# Altium footprint library Interface.PcbLib: 169 footprints (part 7 of 11)
Each footprint in its own frame and in the unit in brackets; x right, y up, seen from the top. Pads: shape width x height; smd on the part's side, far side on the other; paste and mask are expansions set on the pad; w line width, h text height; cw(c..) or ccw(c..) is an arc to the next point about the centre after c.
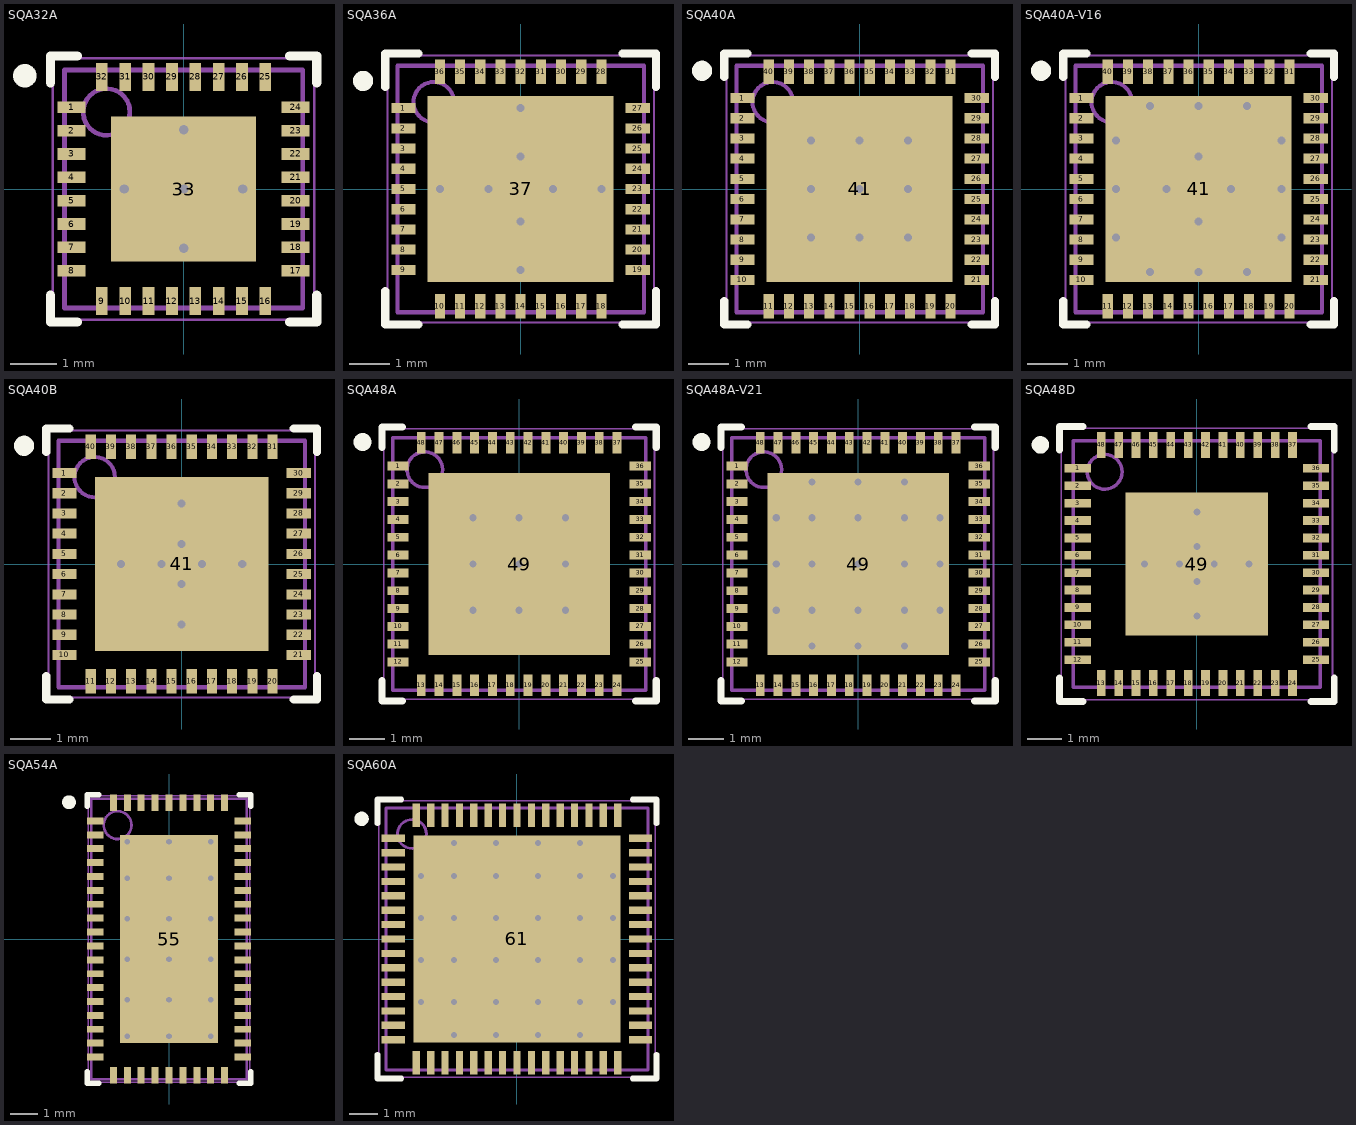
[diagram p6: the footprints below, top view; thin cyan lines are the x and y axes]

## SQA32A [mm] "QFN, 32-Leads, Body 5x5mm, Pitch 0.5mm, NSC Recommended"
height 0.8
pads (33):
  rect 0.6x0.25 smd paste-0.125 mask+0.051: 1(-2.4,1.75) 2(-2.4,1.25) 3(-2.4,0.75) 4(-2.4,0.25) 5(-2.4,-0.25) 6(-2.4,-0.75) 7(-2.4,-1.25) 8(-2.4,-1.75) 17(2.4,-1.75) 18(2.4,-1.25) 19(2.4,-0.75) 20(2.4,-0.25) 21(2.4,0.25) 22(2.4,0.75) 23(2.4,1.25) 24(2.4,1.75)
  rect 0.25x0.6 smd paste-0.125 mask+0.051: 9(-1.75,-2.4) 10(-1.25,-2.4) 11(-0.75,-2.4) 12(-0.25,-2.4) 13(0.25,-2.4) 14(0.75,-2.4) 15(1.25,-2.4) 16(1.75,-2.4) 25(1.75,2.4) 26(1.25,2.4) 27(0.75,2.4) 28(0.25,2.4) 29(-0.25,2.4) 30(-0.75,2.4) 31(-1.25,2.4) 32(-1.75,2.4)
  rect 3.1x3.1 smd paste-1.55 mask+0.051: 33(0,0)
via 0,1.27 diameter 0.5 hole 0.2
via -1.27,0 diameter 0.5 hole 0.2
via 0,0 diameter 0.5 hole 0.2
via 1.27,0 diameter 0.5 hole 0.2
via 0,-1.27 diameter 0.5 hole 0.2
Top Overlay:
  circle w0.25: c-3.4,2.425 r0.125
  lines w0.2: -2.85,-2.275 -2.85,-2.85 -2.275,-2.85 ; -2.85,2.275 -2.85,2.85 -2.275,2.85 ; 2.275,-2.85 2.85,-2.85 2.85,-2.275 ; 2.275,2.85 2.85,2.85 2.85,2.275
Top Paste:
  region: 1.625,2.9 1.625,2.2 1.875,2.2 1.875,2.9
  region: 1.125,2.9 1.125,2.2 1.375,2.2 1.375,2.9
  region: 0.625,2.9 0.625,2.2 0.875,2.2 0.875,2.9
  region: 0.125,2.9 0.125,2.2 0.375,2.2 0.375,2.9
  region: -0.375,2.9 -0.375,2.2 -0.125,2.2 -0.125,2.9
  region: -0.875,2.9 -0.875,2.2 -0.625,2.2 -0.625,2.9
  region: -1.375,2.9 -1.375,2.2 -1.125,2.2 -1.125,2.9
  region: -1.875,2.9 -1.875,2.2 -1.625,2.2 -1.625,2.9
  region: 2.9,-1.625 2.2,-1.625 2.2,-1.875 2.9,-1.875
  region: 2.9,-1.125 2.2,-1.125 2.2,-1.375 2.9,-1.375
  region: 2.9,-0.625 2.2,-0.625 2.2,-0.875 2.9,-0.875
  region: 2.9,-0.125 2.2,-0.125 2.2,-0.375 2.9,-0.375
  region: 2.9,0.375 2.2,0.375 2.2,0.125 2.9,0.125
  region: 2.9,0.875 2.2,0.875 2.2,0.625 2.9,0.625
  region: 2.9,1.375 2.2,1.375 2.2,1.125 2.9,1.125
  region: 2.9,1.875 2.2,1.875 2.2,1.625 2.9,1.625
  region: -1.625,-2.9 -1.625,-2.2 -1.875,-2.2 -1.875,-2.9
  region: -1.125,-2.9 -1.125,-2.2 -1.375,-2.2 -1.375,-2.9
  region: -0.625,-2.9 -0.625,-2.2 -0.875,-2.2 -0.875,-2.9
  region: -0.125,-2.9 -0.125,-2.2 -0.375,-2.2 -0.375,-2.9
  region: 0.375,-2.9 0.375,-2.2 0.125,-2.2 0.125,-2.9
  region: 0.875,-2.9 0.875,-2.2 0.625,-2.2 0.625,-2.9
  region: 1.375,-2.9 1.375,-2.2 1.125,-2.2 1.125,-2.9
  region: 1.875,-2.9 1.875,-2.2 1.625,-2.2 1.625,-2.9
  rectangle: -2.9,-1.875 -2.2,-1.625
  rectangle: -2.9,-1.375 -2.2,-1.125
  rectangle: -2.9,-0.875 -2.2,-0.625
  rectangle: -2.9,-0.375 -2.2,-0.125
  rectangle: -2.9,0.125 -2.2,0.375
  rectangle: -2.9,0.625 -2.2,0.875
  rectangle: -2.9,1.125 -2.2,1.375
  rectangle: -2.9,1.625 -2.2,1.875
  rectangle: 0.1,0.1 1.4,1.4
  region: -0.1,1.4 -1.4,1.4 -1.4,0.1 -0.1,0.1
  region: -0.1,-0.1 -1.4,-0.1 -1.4,-1.4 -0.1,-1.4
  rectangle: 0.1,-1.4 1.4,-0.1
Mechanical 13:
  circle w0.1: c-1.65,1.65 r0.5
  lines w0.1: -2.55,-2.55 -2.55,2.55 2.55,2.55 2.55,-2.55 -2.55,-2.55
Mechanical 15:
  lines w0.05: -2.8,-2.8 -2.8,2.8 2.8,2.8 2.8,-2.8 -2.8,-2.8
  lines w0.1: -0.5,0 0.5,0 ; 0,-0.5 0,0.5
3D body: height 0.8, standoff 0, extent -2.55,-2.55 2.55,2.55

## SQA36A [mm] "QFN, 36-Leads, Body 6x6mm, Pitch 0.5mm, NSC Recommended"
height 0.8
pads (37):
  rect 0.6x0.25 smd paste-0.125 mask+0.051: 1(-2.9,2) 2(-2.9,1.5) 3(-2.9,1) 4(-2.9,0.5) 5(-2.9,0) 6(-2.9,-0.5) 7(-2.9,-1) 8(-2.9,-1.5) 9(-2.9,-2) 19(2.9,-2) 20(2.9,-1.5) 21(2.9,-1) 22(2.9,-0.5) 23(2.9,0) 24(2.9,0.5) 25(2.9,1) 26(2.9,1.5) 27(2.9,2)
  rect 0.25x0.6 smd paste-0.125 mask+0.051: 10(-2,-2.9) 11(-1.5,-2.9) 12(-1,-2.9) 13(-0.5,-2.9) 14(0,-2.9) 15(0.5,-2.9) 16(1,-2.9) 17(1.5,-2.9) 18(2,-2.9) 28(2,2.9) 29(1.5,2.9) 30(1,2.9) 31(0.5,2.9) 32(0,2.9) 33(-0.5,2.9) 34(-1,2.9) 35(-1.5,2.9) 36(-2,2.9)
  rect 4.6x4.6 smd paste-2.3 mask+0.051: 37(0,0)
via -2,0 diameter 0.5 hole 0.2
via 2,0 diameter 0.5 hole 0.2
via 0,-2 diameter 0.5 hole 0.2
via 0,2 diameter 0.5 hole 0.2
via 0,-0.8 diameter 0.5 hole 0.2
via 0,0.8 diameter 0.5 hole 0.2
via -0.8,0 diameter 0.5 hole 0.2
via 0.8,0 diameter 0.5 hole 0.2
Top Overlay:
  circle w0.25: c-3.9,2.675 r0.125
  lines w0.2: -3.35,-2.525 -3.35,-3.35 -2.525,-3.35 ; -3.35,2.525 -3.35,3.35 -2.525,3.35 ; 2.525,-3.35 3.35,-3.35 3.35,-2.525 ; 2.525,3.35 3.35,3.35 3.35,2.525
Top Paste:
  rectangle: 0.15,-2.2 2.2,-0.15
  region: -0.15,-0.15 -2.2,-0.15 -2.2,-2.2 -0.15,-2.2
  region: -0.15,2.2 -2.2,2.2 -2.2,0.15 -0.15,0.15
  rectangle: 0.15,0.15 2.2,2.2
  region: 1.875,3.4 1.875,2.7 2.125,2.7 2.125,3.4
  region: 1.375,3.4 1.375,2.7 1.625,2.7 1.625,3.4
  region: 0.875,3.4 0.875,2.7 1.125,2.7 1.125,3.4
  region: 0.375,3.4 0.375,2.7 0.625,2.7 0.625,3.4
  region: -0.125,3.4 -0.125,2.7 0.125,2.7 0.125,3.4
  region: -0.625,3.4 -0.625,2.7 -0.375,2.7 -0.375,3.4
  region: -1.125,3.4 -1.125,2.7 -0.875,2.7 -0.875,3.4
  region: -1.625,3.4 -1.625,2.7 -1.375,2.7 -1.375,3.4
  region: -2.125,3.4 -2.125,2.7 -1.875,2.7 -1.875,3.4
  region: 3.4,-1.875 2.7,-1.875 2.7,-2.125 3.4,-2.125
  region: 3.4,-1.375 2.7,-1.375 2.7,-1.625 3.4,-1.625
  region: 3.4,-0.875 2.7,-0.875 2.7,-1.125 3.4,-1.125
  region: 3.4,-0.375 2.7,-0.375 2.7,-0.625 3.4,-0.625
  region: 3.4,0.125 2.7,0.125 2.7,-0.125 3.4,-0.125
  region: 3.4,0.625 2.7,0.625 2.7,0.375 3.4,0.375
  region: 3.4,1.125 2.7,1.125 2.7,0.875 3.4,0.875
  region: 3.4,1.625 2.7,1.625 2.7,1.375 3.4,1.375
  region: 3.4,2.125 2.7,2.125 2.7,1.875 3.4,1.875
  region: -1.875,-3.4 -1.875,-2.7 -2.125,-2.7 -2.125,-3.4
  region: -1.375,-3.4 -1.375,-2.7 -1.625,-2.7 -1.625,-3.4
  region: -0.875,-3.4 -0.875,-2.7 -1.125,-2.7 -1.125,-3.4
  region: -0.375,-3.4 -0.375,-2.7 -0.625,-2.7 -0.625,-3.4
  region: 0.125,-3.4 0.125,-2.7 -0.125,-2.7 -0.125,-3.4
  region: 0.625,-3.4 0.625,-2.7 0.375,-2.7 0.375,-3.4
  region: 1.125,-3.4 1.125,-2.7 0.875,-2.7 0.875,-3.4
  region: 1.625,-3.4 1.625,-2.7 1.375,-2.7 1.375,-3.4
  region: 2.125,-3.4 2.125,-2.7 1.875,-2.7 1.875,-3.4
  rectangle: -3.4,-2.125 -2.7,-1.875
  rectangle: -3.4,-1.625 -2.7,-1.375
  rectangle: -3.4,-1.125 -2.7,-0.875
  rectangle: -3.4,-0.625 -2.7,-0.375
  rectangle: -3.4,-0.125 -2.7,0.125
  rectangle: -3.4,0.375 -2.7,0.625
  rectangle: -3.4,0.875 -2.7,1.125
  rectangle: -3.4,1.375 -2.7,1.625
  rectangle: -3.4,1.875 -2.7,2.125
Mechanical 13:
  circle w0.1: c-2.15,2.15 r0.5
  lines w0.1: -3.05,-3.05 -3.05,3.05 3.05,3.05 3.05,-3.05 -3.05,-3.05
Mechanical 15:
  lines w0.05: -3.3,-3.3 -3.3,3.3 3.3,3.3 3.3,-3.3 -3.3,-3.3
  lines w0.1: -0.5,0 0.5,0 ; 0,-0.5 0,0.5
3D body: height 0.8, standoff 0, extent -3.05,-3.05 3.05,3.05

## SQA40A [mm] "QFN, 40-Leads, Body 6x6mm, Pitch 0.5mm, NSC Recommended"
height 0.8
pads (41):
  rect 0.6x0.25 smd paste-0.125 mask+0.051: 1(-2.9,2.25) 2(-2.9,1.75) 3(-2.9,1.25) 4(-2.9,0.75) 5(-2.9,0.25) 6(-2.9,-0.25) 7(-2.9,-0.75) 8(-2.9,-1.25) 9(-2.9,-1.75) 10(-2.9,-2.25) 21(2.9,-2.25) 22(2.9,-1.75) 23(2.9,-1.25) 24(2.9,-0.75) 25(2.9,-0.25) 26(2.9,0.25) 27(2.9,0.75) 28(2.9,1.25) 29(2.9,1.75) 30(2.9,2.25)
  rect 0.25x0.6 smd paste-0.125 mask+0.051: 11(-2.25,-2.9) 12(-1.75,-2.9) 13(-1.25,-2.9) 14(-0.75,-2.9) 15(-0.25,-2.9) 16(0.25,-2.9) 17(0.75,-2.9) 18(1.25,-2.9) 19(1.75,-2.9) 20(2.25,-2.9) 31(2.25,2.9) 32(1.75,2.9) 33(1.25,2.9) 34(0.75,2.9) 35(0.25,2.9) 36(-0.25,2.9) 37(-0.75,2.9) 38(-1.25,2.9) 39(-1.75,2.9) 40(-2.25,2.9)
  rect 4.6x4.6 smd paste-2.3 mask+0.051: 41(0,0)
via 1.2,1.2 diameter 0.5 hole 0.2
via -1.2,1.2 diameter 0.5 hole 0.2
via 0,1.2 diameter 0.5 hole 0.2
via 1.2,-1.2 diameter 0.5 hole 0.2
via -1.2,-1.2 diameter 0.5 hole 0.2
via 0,-1.2 diameter 0.5 hole 0.2
via 0,0 diameter 0.5 hole 0.2
via -1.2,0 diameter 0.5 hole 0.2
via 1.2,0 diameter 0.5 hole 0.2
Top Overlay:
  circle w0.25: c-3.9,2.925 r0.125
  lines w0.2: -3.35,-2.775 -3.35,-3.35 -2.775,-3.35 ; -3.35,2.775 -3.35,3.35 -2.775,3.35 ; 2.775,-3.35 3.35,-3.35 3.35,-2.775 ; 2.775,3.35 3.35,3.35 3.35,2.775
Top Paste:
  region: 2.125,3.4 2.125,2.7 2.375,2.7 2.375,3.4
  region: 1.625,3.4 1.625,2.7 1.875,2.7 1.875,3.4
  region: 1.125,3.4 1.125,2.7 1.375,2.7 1.375,3.4
  region: 0.625,3.4 0.625,2.7 0.875,2.7 0.875,3.4
  region: 0.125,3.4 0.125,2.7 0.375,2.7 0.375,3.4
  region: -0.375,3.4 -0.375,2.7 -0.125,2.7 -0.125,3.4
  region: -0.875,3.4 -0.875,2.7 -0.625,2.7 -0.625,3.4
  region: -1.375,3.4 -1.375,2.7 -1.125,2.7 -1.125,3.4
  region: -1.875,3.4 -1.875,2.7 -1.625,2.7 -1.625,3.4
  region: -2.375,3.4 -2.375,2.7 -2.125,2.7 -2.125,3.4
  region: 3.4,-2.125 2.7,-2.125 2.7,-2.375 3.4,-2.375
  region: 3.4,-1.625 2.7,-1.625 2.7,-1.875 3.4,-1.875
  region: 3.4,-1.125 2.7,-1.125 2.7,-1.375 3.4,-1.375
  region: 3.4,-0.625 2.7,-0.625 2.7,-0.875 3.4,-0.875
  region: 3.4,-0.125 2.7,-0.125 2.7,-0.375 3.4,-0.375
  region: 3.4,0.375 2.7,0.375 2.7,0.125 3.4,0.125
  region: 3.4,0.875 2.7,0.875 2.7,0.625 3.4,0.625
  region: 3.4,1.375 2.7,1.375 2.7,1.125 3.4,1.125
  region: 3.4,1.875 2.7,1.875 2.7,1.625 3.4,1.625
  region: 3.4,2.375 2.7,2.375 2.7,2.125 3.4,2.125
  region: -2.125,-3.4 -2.125,-2.7 -2.375,-2.7 -2.375,-3.4
  region: -1.625,-3.4 -1.625,-2.7 -1.875,-2.7 -1.875,-3.4
  region: -1.125,-3.4 -1.125,-2.7 -1.375,-2.7 -1.375,-3.4
  region: -0.625,-3.4 -0.625,-2.7 -0.875,-2.7 -0.875,-3.4
  region: -0.125,-3.4 -0.125,-2.7 -0.375,-2.7 -0.375,-3.4
  region: 0.375,-3.4 0.375,-2.7 0.125,-2.7 0.125,-3.4
  region: 0.875,-3.4 0.875,-2.7 0.625,-2.7 0.625,-3.4
  region: 1.375,-3.4 1.375,-2.7 1.125,-2.7 1.125,-3.4
  region: 1.875,-3.4 1.875,-2.7 1.625,-2.7 1.625,-3.4
  region: 2.375,-3.4 2.375,-2.7 2.125,-2.7 2.125,-3.4
  rectangle: -3.4,-2.375 -2.7,-2.125
  rectangle: -3.4,-1.875 -2.7,-1.625
  rectangle: -3.4,-1.375 -2.7,-1.125
  rectangle: -3.4,-0.875 -2.7,-0.625
  rectangle: -3.4,-0.375 -2.7,-0.125
  rectangle: -3.4,0.125 -2.7,0.375
  rectangle: -3.4,0.625 -2.7,0.875
  rectangle: -3.4,1.125 -2.7,1.375
  rectangle: -3.4,1.625 -2.7,1.875
  rectangle: -3.4,2.125 -2.7,2.375
  rectangle: 0.1,-1.1 1.1,-0.1
  rectangle: 1.3,-2.3 2.3,-1.3
  rectangle: 1.3,-1.1 2.3,-0.1
  rectangle: 0.1,-2.3 1.1,-1.3
  region: -0.1,-0.1 -1.1,-0.1 -1.1,-1.1 -0.1,-1.1
  region: -1.3,-1.3 -2.3,-1.3 -2.3,-2.3 -1.3,-2.3
  region: -1.3,-0.1 -2.3,-0.1 -2.3,-1.1 -1.3,-1.1
  region: -0.1,-1.3 -1.1,-1.3 -1.1,-2.3 -0.1,-2.3
  region: -0.1,1.1 -1.1,1.1 -1.1,0.1 -0.1,0.1
  region: -1.3,2.3 -2.3,2.3 -2.3,1.3 -1.3,1.3
  region: -1.3,1.1 -2.3,1.1 -2.3,0.1 -1.3,0.1
  region: -0.1,2.3 -1.1,2.3 -1.1,1.3 -0.1,1.3
  rectangle: 0.1,1.3 1.1,2.3
  rectangle: 1.3,0.1 2.3,1.1
  rectangle: 1.3,1.3 2.3,2.3
  rectangle: 0.1,0.1 1.1,1.1
Mechanical 13:
  circle w0.1: c-2.15,2.15 r0.5
  lines w0.1: -3.05,-3.05 -3.05,3.05 3.05,3.05 3.05,-3.05 -3.05,-3.05
Mechanical 15:
  lines w0.05: -3.3,-3.3 -3.3,3.3 3.3,3.3 3.3,-3.3 -3.3,-3.3
  lines w0.1: -0.5,0 0.5,0 ; 0,-0.5 0,0.5
3D body: height 0.8, standoff 0, extent -3.05,-3.05 3.05,3.05

## SQA40A-V16 [mm] "QFN, 40-Leads, Body 6x6mm, Pitch 0.5mm, Thermal Pad 4.7x4.7mm, 16 vias, NSC Recommended"
height 0.8
pads (41):
  rect 0.6x0.25 smd paste-0.125 mask+0.051: 1(-2.9,2.25) 2(-2.9,1.75) 3(-2.9,1.25) 4(-2.9,0.75) 5(-2.9,0.25) 6(-2.9,-0.25) 7(-2.9,-0.75) 8(-2.9,-1.25) 9(-2.9,-1.75) 10(-2.9,-2.25) 21(2.9,-2.25) 22(2.9,-1.75) 23(2.9,-1.25) 24(2.9,-0.75) 25(2.9,-0.25) 26(2.9,0.25) 27(2.9,0.75) 28(2.9,1.25) 29(2.9,1.75) 30(2.9,2.25)
  rect 0.25x0.6 smd paste-0.125 mask+0.051: 11(-2.25,-2.9) 12(-1.75,-2.9) 13(-1.25,-2.9) 14(-0.75,-2.9) 15(-0.25,-2.9) 16(0.25,-2.9) 17(0.75,-2.9) 18(1.25,-2.9) 19(1.75,-2.9) 20(2.25,-2.9) 31(2.25,2.9) 32(1.75,2.9) 33(1.25,2.9) 34(0.75,2.9) 35(0.25,2.9) 36(-0.25,2.9) 37(-0.75,2.9) 38(-1.25,2.9) 39(-1.75,2.9) 40(-2.25,2.9)
  rect 4.6x4.6 smd paste-2.3 mask+0.051: 41(0,0)
via 0,0.8 diameter 0.5 hole 0.2
via 0,-2.05 diameter 0.5 hole 0.2
via 1.2,-2.05 diameter 0.5 hole 0.2
via -1.2,-2.05 diameter 0.5 hole 0.2
via 0,2.05 diameter 0.5 hole 0.2
via -1.2,2.05 diameter 0.5 hole 0.2
via 1.2,2.05 diameter 0.5 hole 0.2
via -2.05,0 diameter 0.5 hole 0.2
via -2.05,-1.2 diameter 0.5 hole 0.2
via -2.05,1.2 diameter 0.5 hole 0.2
via 2.05,1.2 diameter 0.5 hole 0.2
via 2.05,-1.2 diameter 0.5 hole 0.2
via 2.05,0 diameter 0.5 hole 0.2
via -0.8,0 diameter 0.5 hole 0.2
via 0,-0.8 diameter 0.5 hole 0.2
via 0.8,0 diameter 0.5 hole 0.2
Top Overlay:
  circle w0.25: c-3.9,2.925 r0.125
  lines w0.2: -3.35,-2.775 -3.35,-3.35 -2.775,-3.35 ; -3.35,2.775 -3.35,3.35 -2.775,3.35 ; 2.775,-3.35 3.35,-3.35 3.35,-2.775 ; 2.775,3.35 3.35,3.35 3.35,2.775
Top Paste:
  rectangle: 0.1,0.1 1.1,1.1
  rectangle: 1.3,1.3 2.3,2.3
  rectangle: 1.3,0.1 2.3,1.1
  rectangle: 0.1,1.3 1.1,2.3
  region: -0.1,2.3 -1.1,2.3 -1.1,1.3 -0.1,1.3
  region: -1.3,1.1 -2.3,1.1 -2.3,0.1 -1.3,0.1
  region: -1.3,2.3 -2.3,2.3 -2.3,1.3 -1.3,1.3
  region: -0.1,1.1 -1.1,1.1 -1.1,0.1 -0.1,0.1
  region: -0.1,-1.3 -1.1,-1.3 -1.1,-2.3 -0.1,-2.3
  region: -1.3,-0.1 -2.3,-0.1 -2.3,-1.1 -1.3,-1.1
  region: -1.3,-1.3 -2.3,-1.3 -2.3,-2.3 -1.3,-2.3
  region: -0.1,-0.1 -1.1,-0.1 -1.1,-1.1 -0.1,-1.1
  rectangle: 0.1,-2.3 1.1,-1.3
  rectangle: 1.3,-1.1 2.3,-0.1
  rectangle: 1.3,-2.3 2.3,-1.3
  rectangle: 0.1,-1.1 1.1,-0.1
  rectangle: -3.4,2.125 -2.7,2.375
  rectangle: -3.4,1.625 -2.7,1.875
  rectangle: -3.4,1.125 -2.7,1.375
  rectangle: -3.4,0.625 -2.7,0.875
  rectangle: -3.4,0.125 -2.7,0.375
  rectangle: -3.4,-0.375 -2.7,-0.125
  rectangle: -3.4,-0.875 -2.7,-0.625
  rectangle: -3.4,-1.375 -2.7,-1.125
  rectangle: -3.4,-1.875 -2.7,-1.625
  rectangle: -3.4,-2.375 -2.7,-2.125
  region: 2.375,-3.4 2.375,-2.7 2.125,-2.7 2.125,-3.4
  region: 1.875,-3.4 1.875,-2.7 1.625,-2.7 1.625,-3.4
  region: 1.375,-3.4 1.375,-2.7 1.125,-2.7 1.125,-3.4
  region: 0.875,-3.4 0.875,-2.7 0.625,-2.7 0.625,-3.4
  region: 0.375,-3.4 0.375,-2.7 0.125,-2.7 0.125,-3.4
  region: -0.125,-3.4 -0.125,-2.7 -0.375,-2.7 -0.375,-3.4
  region: -0.625,-3.4 -0.625,-2.7 -0.875,-2.7 -0.875,-3.4
  region: -1.125,-3.4 -1.125,-2.7 -1.375,-2.7 -1.375,-3.4
  region: -1.625,-3.4 -1.625,-2.7 -1.875,-2.7 -1.875,-3.4
  region: -2.125,-3.4 -2.125,-2.7 -2.375,-2.7 -2.375,-3.4
  region: 3.4,2.375 2.7,2.375 2.7,2.125 3.4,2.125
  region: 3.4,1.875 2.7,1.875 2.7,1.625 3.4,1.625
  region: 3.4,1.375 2.7,1.375 2.7,1.125 3.4,1.125
  region: 3.4,0.875 2.7,0.875 2.7,0.625 3.4,0.625
  region: 3.4,0.375 2.7,0.375 2.7,0.125 3.4,0.125
  region: 3.4,-0.125 2.7,-0.125 2.7,-0.375 3.4,-0.375
  region: 3.4,-0.625 2.7,-0.625 2.7,-0.875 3.4,-0.875
  region: 3.4,-1.125 2.7,-1.125 2.7,-1.375 3.4,-1.375
  region: 3.4,-1.625 2.7,-1.625 2.7,-1.875 3.4,-1.875
  region: 3.4,-2.125 2.7,-2.125 2.7,-2.375 3.4,-2.375
  region: -2.375,3.4 -2.375,2.7 -2.125,2.7 -2.125,3.4
  region: -1.875,3.4 -1.875,2.7 -1.625,2.7 -1.625,3.4
  region: -1.375,3.4 -1.375,2.7 -1.125,2.7 -1.125,3.4
  region: -0.875,3.4 -0.875,2.7 -0.625,2.7 -0.625,3.4
  region: -0.375,3.4 -0.375,2.7 -0.125,2.7 -0.125,3.4
  region: 0.125,3.4 0.125,2.7 0.375,2.7 0.375,3.4
  region: 0.625,3.4 0.625,2.7 0.875,2.7 0.875,3.4
  region: 1.125,3.4 1.125,2.7 1.375,2.7 1.375,3.4
  region: 1.625,3.4 1.625,2.7 1.875,2.7 1.875,3.4
  region: 2.125,3.4 2.125,2.7 2.375,2.7 2.375,3.4
Mechanical 13:
  circle w0.1: c-2.15,2.15 r0.5
  lines w0.1: -3.05,-3.05 3.05,-3.05 3.05,3.05 -3.05,3.05 -3.05,-3.05
Mechanical 15:
  lines w0.05: -3.3,-3.3 3.3,-3.3 3.3,3.3 -3.3,3.3 -3.3,-3.3
  lines w0.1: -0.5,0 0.5,0 ; 0,-0.5 0,0.5
3D body: height 0.8, standoff 0, extent -3.05,-3.05 3.05,3.05

## SQA40B [mm] "QFN, 40-Leads, Body 6x6mm, Pitch 0.5mm, NSC Recommended"
height 0.8
pads (41):
  rect 0.6x0.25 smd paste-0.125 mask+0.051: 1(-2.9,2.25) 2(-2.9,1.75) 3(-2.9,1.25) 4(-2.9,0.75) 5(-2.9,0.25) 6(-2.9,-0.25) 7(-2.9,-0.75) 8(-2.9,-1.25) 9(-2.9,-1.75) 10(-2.9,-2.25) 21(2.9,-2.25) 22(2.9,-1.75) 23(2.9,-1.25) 24(2.9,-0.75) 25(2.9,-0.25) 26(2.9,0.25) 27(2.9,0.75) 28(2.9,1.25) 29(2.9,1.75) 30(2.9,2.25)
  rect 0.25x0.6 smd paste-0.125 mask+0.051: 11(-2.25,-2.9) 12(-1.75,-2.9) 13(-1.25,-2.9) 14(-0.75,-2.9) 15(-0.25,-2.9) 16(0.25,-2.9) 17(0.75,-2.9) 18(1.25,-2.9) 19(1.75,-2.9) 20(2.25,-2.9) 31(2.25,2.9) 32(1.75,2.9) 33(1.25,2.9) 34(0.75,2.9) 35(0.25,2.9) 36(-0.25,2.9) 37(-0.75,2.9) 38(-1.25,2.9) 39(-1.75,2.9) 40(-2.25,2.9)
  rect 4.3x4.3 smd paste-2.15 mask+0.051: 41(0,0)
via -1.5,0 diameter 0.5 hole 0.2
via 0,-1.5 diameter 0.5 hole 0.2
via 0,1.5 diameter 0.5 hole 0.2
via 1.5,0 diameter 0.5 hole 0.2
via -0.5,0 diameter 0.5 hole 0.2
via 0.5,0 diameter 0.5 hole 0.2
via 0,-0.5 diameter 0.5 hole 0.2
via 0,0.5 diameter 0.5 hole 0.2
Top Overlay:
  circle w0.25: c-3.9,2.925 r0.125
  lines w0.2: -3.35,-2.775 -3.35,-3.35 -2.775,-3.35 ; -3.35,2.775 -3.35,3.35 -2.775,3.35 ; 2.775,-3.35 3.35,-3.35 3.35,-2.775 ; 2.775,3.35 3.35,3.35 3.35,2.775
Top Paste:
  rectangle: -3.4,2.125 -2.7,2.375
  rectangle: -3.4,1.625 -2.7,1.875
  rectangle: -3.4,1.125 -2.7,1.375
  rectangle: -3.4,0.625 -2.7,0.875
  rectangle: -3.4,0.125 -2.7,0.375
  rectangle: -3.4,-0.375 -2.7,-0.125
  rectangle: -3.4,-0.875 -2.7,-0.625
  rectangle: -3.4,-1.375 -2.7,-1.125
  rectangle: -3.4,-1.875 -2.7,-1.625
  rectangle: -3.4,-2.375 -2.7,-2.125
  region: 2.375,-3.4 2.375,-2.7 2.125,-2.7 2.125,-3.4
  region: 1.875,-3.4 1.875,-2.7 1.625,-2.7 1.625,-3.4
  region: 1.375,-3.4 1.375,-2.7 1.125,-2.7 1.125,-3.4
  region: 0.875,-3.4 0.875,-2.7 0.625,-2.7 0.625,-3.4
  region: 0.375,-3.4 0.375,-2.7 0.125,-2.7 0.125,-3.4
  region: -0.125,-3.4 -0.125,-2.7 -0.375,-2.7 -0.375,-3.4
  region: -0.625,-3.4 -0.625,-2.7 -0.875,-2.7 -0.875,-3.4
  region: -1.125,-3.4 -1.125,-2.7 -1.375,-2.7 -1.375,-3.4
  region: -1.625,-3.4 -1.625,-2.7 -1.875,-2.7 -1.875,-3.4
  region: -2.125,-3.4 -2.125,-2.7 -2.375,-2.7 -2.375,-3.4
  region: 3.4,2.375 2.7,2.375 2.7,2.125 3.4,2.125
  region: 3.4,1.875 2.7,1.875 2.7,1.625 3.4,1.625
  region: 3.4,1.375 2.7,1.375 2.7,1.125 3.4,1.125
  region: 3.4,0.875 2.7,0.875 2.7,0.625 3.4,0.625
  region: 3.4,0.375 2.7,0.375 2.7,0.125 3.4,0.125
  region: 3.4,-0.125 2.7,-0.125 2.7,-0.375 3.4,-0.375
  region: 3.4,-0.625 2.7,-0.625 2.7,-0.875 3.4,-0.875
  region: 3.4,-1.125 2.7,-1.125 2.7,-1.375 3.4,-1.375
  region: 3.4,-1.625 2.7,-1.625 2.7,-1.875 3.4,-1.875
  region: 3.4,-2.125 2.7,-2.125 2.7,-2.375 3.4,-2.375
  region: -2.375,3.4 -2.375,2.7 -2.125,2.7 -2.125,3.4
  region: -1.875,3.4 -1.875,2.7 -1.625,2.7 -1.625,3.4
  region: -1.375,3.4 -1.375,2.7 -1.125,2.7 -1.125,3.4
  region: -0.875,3.4 -0.875,2.7 -0.625,2.7 -0.625,3.4
  region: -0.375,3.4 -0.375,2.7 -0.125,2.7 -0.125,3.4
  region: 0.125,3.4 0.125,2.7 0.375,2.7 0.375,3.4
  region: 0.625,3.4 0.625,2.7 0.875,2.7 0.875,3.4
  region: 1.125,3.4 1.125,2.7 1.375,2.7 1.375,3.4
  region: 1.625,3.4 1.625,2.7 1.875,2.7 1.875,3.4
  region: 2.125,3.4 2.125,2.7 2.375,2.7 2.375,3.4
  rectangle: 0.1,0.1 2,2
  region: -0.1,2 -2,2 -2,0.1 -0.1,0.1
  region: -0.1,-0.1 -2,-0.1 -2,-2 -0.1,-2
  rectangle: 0.1,-2 2,-0.1
Mechanical 13:
  circle w0.1: c-2.15,2.15 r0.5
  lines w0.1: -3.05,-3.05 -3.05,3.05 3.05,3.05 3.05,-3.05 -3.05,-3.05
Mechanical 15:
  lines w0.05: -3.3,-3.3 -3.3,3.3 3.3,3.3 3.3,-3.3 -3.3,-3.3
  lines w0.1: -0.5,0 0.5,0 ; 0,-0.5 0,0.5
3D body: height 0.8, standoff 0, extent -3.05,-3.05 3.05,3.05

## SQA48A [mm] "QFN, 48-Leads, Body 7x7mm, Pitch 0.5mm, NSC Recommended"
height 0.8
pads (49):
  rect 0.6x0.25 smd paste-0.125 mask+0.051: 1(-3.4,2.75) 2(-3.4,2.25) 3(-3.4,1.75) 4(-3.4,1.25) 5(-3.4,0.75) 6(-3.4,0.25) 7(-3.4,-0.25) 8(-3.4,-0.75) 9(-3.4,-1.25) 10(-3.4,-1.75) 11(-3.4,-2.25) 12(-3.4,-2.75) 25(3.4,-2.75) 26(3.4,-2.25) 27(3.4,-1.75) 28(3.4,-1.25) 29(3.4,-0.75) 30(3.4,-0.25) 31(3.4,0.25) 32(3.4,0.75) 33(3.4,1.25) 34(3.4,1.75) 35(3.4,2.25) 36(3.4,2.75)
  rect 0.25x0.6 smd paste-0.125 mask+0.051: 13(-2.75,-3.4) 14(-2.25,-3.4) 15(-1.75,-3.4) 16(-1.25,-3.4) 17(-0.75,-3.4) 18(-0.25,-3.4) 19(0.25,-3.4) 20(0.75,-3.4) 21(1.25,-3.4) 22(1.75,-3.4) 23(2.25,-3.4) 24(2.75,-3.4) 37(2.75,3.4) 38(2.25,3.4) 39(1.75,3.4) 40(1.25,3.4) 41(0.75,3.4) 42(0.25,3.4) 43(-0.25,3.4) 44(-0.75,3.4) 45(-1.25,3.4) 46(-1.75,3.4) 47(-2.25,3.4) 48(-2.75,3.4)
  rect 5.1x5.1 smd paste-2.55 mask+0.051: 49(0,0)
via 0,-1.3 diameter 0.5 hole 0.2
via 1.3,-1.3 diameter 0.5 hole 0.2
via -1.3,-1.3 diameter 0.5 hole 0.2
via 0,1.3 diameter 0.5 hole 0.2
via 1.3,1.3 diameter 0.5 hole 0.2
via -1.3,1.3 diameter 0.5 hole 0.2
via -1.3,0 diameter 0.5 hole 0.2
via 1.3,0 diameter 0.5 hole 0.2
via 0,0 diameter 0.5 hole 0.2
Top Overlay:
  circle w0.25: c-4.4,3.425 r0.125
  lines w0.2: -3.85,-3.275 -3.85,-3.85 -3.275,-3.85 ; -3.85,3.275 -3.85,3.85 -3.275,3.85 ; 3.275,-3.85 3.85,-3.85 3.85,-3.275 ; 3.275,3.85 3.85,3.85 3.85,3.275
Top Paste:
  rectangle: -3.9,2.625 -3.2,2.875
  rectangle: -3.9,2.125 -3.2,2.375
  rectangle: -3.9,1.625 -3.2,1.875
  rectangle: -3.9,1.125 -3.2,1.375
  rectangle: -3.9,0.625 -3.2,0.875
  rectangle: -3.9,0.125 -3.2,0.375
  rectangle: -3.9,-0.375 -3.2,-0.125
  rectangle: -3.9,-0.875 -3.2,-0.625
  rectangle: -3.9,-1.375 -3.2,-1.125
  rectangle: -3.9,-1.875 -3.2,-1.625
  rectangle: -3.9,-2.375 -3.2,-2.125
  rectangle: -3.9,-2.875 -3.2,-2.625
  region: 2.875,-3.9 2.875,-3.2 2.625,-3.2 2.625,-3.9
  region: 2.375,-3.9 2.375,-3.2 2.125,-3.2 2.125,-3.9
  region: 1.875,-3.9 1.875,-3.2 1.625,-3.2 1.625,-3.9
  region: 1.375,-3.9 1.375,-3.2 1.125,-3.2 1.125,-3.9
  region: 0.875,-3.9 0.875,-3.2 0.625,-3.2 0.625,-3.9
  region: 0.375,-3.9 0.375,-3.2 0.125,-3.2 0.125,-3.9
  region: -0.125,-3.9 -0.125,-3.2 -0.375,-3.2 -0.375,-3.9
  region: -0.625,-3.9 -0.625,-3.2 -0.875,-3.2 -0.875,-3.9
  region: -1.125,-3.9 -1.125,-3.2 -1.375,-3.2 -1.375,-3.9
  region: -1.625,-3.9 -1.625,-3.2 -1.875,-3.2 -1.875,-3.9
  region: -2.125,-3.9 -2.125,-3.2 -2.375,-3.2 -2.375,-3.9
  region: -2.625,-3.9 -2.625,-3.2 -2.875,-3.2 -2.875,-3.9
  region: 3.9,2.875 3.2,2.875 3.2,2.625 3.9,2.625
  region: 3.9,2.375 3.2,2.375 3.2,2.125 3.9,2.125
  region: 3.9,1.875 3.2,1.875 3.2,1.625 3.9,1.625
  region: 3.9,1.375 3.2,1.375 3.2,1.125 3.9,1.125
  region: 3.9,0.875 3.2,0.875 3.2,0.625 3.9,0.625
  region: 3.9,0.375 3.2,0.375 3.2,0.125 3.9,0.125
  region: 3.9,-0.125 3.2,-0.125 3.2,-0.375 3.9,-0.375
  region: 3.9,-0.625 3.2,-0.625 3.2,-0.875 3.9,-0.875
  region: 3.9,-1.125 3.2,-1.125 3.2,-1.375 3.9,-1.375
  region: 3.9,-1.625 3.2,-1.625 3.2,-1.875 3.9,-1.875
  region: 3.9,-2.125 3.2,-2.125 3.2,-2.375 3.9,-2.375
  region: 3.9,-2.625 3.2,-2.625 3.2,-2.875 3.9,-2.875
  region: -2.875,3.9 -2.875,3.2 -2.625,3.2 -2.625,3.9
  region: -2.375,3.9 -2.375,3.2 -2.125,3.2 -2.125,3.9
  region: -1.875,3.9 -1.875,3.2 -1.625,3.2 -1.625,3.9
  region: -1.375,3.9 -1.375,3.2 -1.125,3.2 -1.125,3.9
  region: -0.875,3.9 -0.875,3.2 -0.625,3.2 -0.625,3.9
  region: -0.375,3.9 -0.375,3.2 -0.125,3.2 -0.125,3.9
  region: 0.125,3.9 0.125,3.2 0.375,3.2 0.375,3.9
  region: 0.625,3.9 0.625,3.2 0.875,3.2 0.875,3.9
  region: 1.125,3.9 1.125,3.2 1.375,3.2 1.375,3.9
  region: 1.625,3.9 1.625,3.2 1.875,3.2 1.875,3.9
  region: 2.125,3.9 2.125,3.2 2.375,3.2 2.375,3.9
  region: 2.625,3.9 2.625,3.2 2.875,3.2 2.875,3.9
  rectangle: 0.1,0.1 1.2,1.2
  rectangle: 0.1,1.4 1.2,2.5
  rectangle: 1.4,0.1 2.5,1.2
  rectangle: 1.4,1.4 2.5,2.5
  region: -1.4,2.5 -2.5,2.5 -2.5,1.4 -1.4,1.4
  region: -1.4,1.2 -2.5,1.2 -2.5,0.1 -1.4,0.1
  region: -0.1,2.5 -1.2,2.5 -1.2,1.4 -0.1,1.4
  region: -0.1,1.2 -1.2,1.2 -1.2,0.1 -0.1,0.1
  region: -2.5,-1.4 -2.5,-2.5 -1.4,-2.5 -1.4,-1.4
  region: -1.2,-1.4 -1.2,-2.5 -0.1,-2.5 -0.1,-1.4
  region: -2.5,-0.1 -2.5,-1.2 -1.4,-1.2 -1.4,-0.1
  region: -1.2,-0.1 -1.2,-1.2 -0.1,-1.2 -0.1,-0.1
  region: 1.4,-1.4 1.4,-2.5 2.5,-2.5 2.5,-1.4
  region: 0.1,-1.4 0.1,-2.5 1.2,-2.5 1.2,-1.4
  region: 1.4,-0.1 1.4,-1.2 2.5,-1.2 2.5,-0.1
  region: 0.1,-0.1 0.1,-1.2 1.2,-1.2 1.2,-0.1
Mechanical 13:
  circle w0.1: c-2.65,2.65 r0.5
  lines w0.1: -3.55,-3.55 3.55,-3.55 3.55,3.55 -3.55,3.55 -3.55,-3.55
Mechanical 15:
  lines w0.05: -3.8,-3.8 3.8,-3.8 3.8,3.8 -3.8,3.8 -3.8,-3.8
  lines w0.1: -0.5,0 0.5,0 ; 0,-0.5 0,0.5
3D body: height 0.8, standoff 0, extent -3.55,-3.55 3.55,3.55

## SQA48A-V21 [mm] "QFN, 48-Leads, Body 7x7mm, Pitch 0.5mm, Thermal Pad 5.2x5.2mm, 21 vias, NSC Recommended"
height 0.8
pads (49):
  rect 0.6x0.25 smd paste-0.125 mask+0.051: 1(-3.4,2.75) 2(-3.4,2.25) 3(-3.4,1.75) 4(-3.4,1.25) 5(-3.4,0.75) 6(-3.4,0.25) 7(-3.4,-0.25) 8(-3.4,-0.75) 9(-3.4,-1.25) 10(-3.4,-1.75) 11(-3.4,-2.25) 12(-3.4,-2.75) 25(3.4,-2.75) 26(3.4,-2.25) 27(3.4,-1.75) 28(3.4,-1.25) 29(3.4,-0.75) 30(3.4,-0.25) 31(3.4,0.25) 32(3.4,0.75) 33(3.4,1.25) 34(3.4,1.75) 35(3.4,2.25) 36(3.4,2.75)
  rect 0.25x0.6 smd paste-0.125 mask+0.051: 13(-2.75,-3.4) 14(-2.25,-3.4) 15(-1.75,-3.4) 16(-1.25,-3.4) 17(-0.75,-3.4) 18(-0.25,-3.4) 19(0.25,-3.4) 20(0.75,-3.4) 21(1.25,-3.4) 22(1.75,-3.4) 23(2.25,-3.4) 24(2.75,-3.4) 37(2.75,3.4) 38(2.25,3.4) 39(1.75,3.4) 40(1.25,3.4) 41(0.75,3.4) 42(0.25,3.4) 43(-0.25,3.4) 44(-0.75,3.4) 45(-1.25,3.4) 46(-1.75,3.4) 47(-2.25,3.4) 48(-2.75,3.4)
  rect 5.1x5.1 smd paste-2.55 mask+0.051: 49(0,0)
via 0,-1.3 diameter 0.5 hole 0.2
via 1.3,-1.3 diameter 0.5 hole 0.2
via -1.3,-1.3 diameter 0.5 hole 0.2
via 0,1.3 diameter 0.5 hole 0.2
via 1.3,1.3 diameter 0.5 hole 0.2
via -1.3,1.3 diameter 0.5 hole 0.2
via -1.3,0 diameter 0.5 hole 0.2
via 1.3,0 diameter 0.5 hole 0.2
via 0,0 diameter 0.5 hole 0.2
via -1.3,2.3 diameter 0.5 hole 0.2
via 1.3,2.3 diameter 0.5 hole 0.2
via 0,2.3 diameter 0.5 hole 0.2
via -1.3,-2.3 diameter 0.5 hole 0.2
via 1.3,-2.3 diameter 0.5 hole 0.2
via 0,-2.3 diameter 0.5 hole 0.2
via 2.3,-1.3 diameter 0.5 hole 0.2
via 2.3,1.3 diameter 0.5 hole 0.2
via 2.3,0 diameter 0.5 hole 0.2
via -2.3,0 diameter 0.5 hole 0.2
via -2.3,1.3 diameter 0.5 hole 0.2
via -2.3,-1.3 diameter 0.5 hole 0.2
Top Overlay:
  circle w0.25: c-4.4,3.425 r0.125
  lines w0.2: -3.85,-3.275 -3.85,-3.85 -3.275,-3.85 ; -3.85,3.275 -3.85,3.85 -3.275,3.85 ; 3.275,-3.85 3.85,-3.85 3.85,-3.275 ; 3.275,3.85 3.85,3.85 3.85,3.275
Top Paste:
  rectangle: -3.9,2.625 -3.2,2.875
  rectangle: -3.9,2.125 -3.2,2.375
  rectangle: -3.9,1.625 -3.2,1.875
  rectangle: -3.9,1.125 -3.2,1.375
  rectangle: -3.9,0.625 -3.2,0.875
  rectangle: -3.9,0.125 -3.2,0.375
  rectangle: -3.9,-0.375 -3.2,-0.125
  rectangle: -3.9,-0.875 -3.2,-0.625
  rectangle: -3.9,-1.375 -3.2,-1.125
  rectangle: -3.9,-1.875 -3.2,-1.625
  rectangle: -3.9,-2.375 -3.2,-2.125
  rectangle: -3.9,-2.875 -3.2,-2.625
  region: 2.875,-3.9 2.875,-3.2 2.625,-3.2 2.625,-3.9
  region: 2.375,-3.9 2.375,-3.2 2.125,-3.2 2.125,-3.9
  region: 1.875,-3.9 1.875,-3.2 1.625,-3.2 1.625,-3.9
  region: 1.375,-3.9 1.375,-3.2 1.125,-3.2 1.125,-3.9
  region: 0.875,-3.9 0.875,-3.2 0.625,-3.2 0.625,-3.9
  region: 0.375,-3.9 0.375,-3.2 0.125,-3.2 0.125,-3.9
  region: -0.125,-3.9 -0.125,-3.2 -0.375,-3.2 -0.375,-3.9
  region: -0.625,-3.9 -0.625,-3.2 -0.875,-3.2 -0.875,-3.9
  region: -1.125,-3.9 -1.125,-3.2 -1.375,-3.2 -1.375,-3.9
  region: -1.625,-3.9 -1.625,-3.2 -1.875,-3.2 -1.875,-3.9
  region: -2.125,-3.9 -2.125,-3.2 -2.375,-3.2 -2.375,-3.9
  region: -2.625,-3.9 -2.625,-3.2 -2.875,-3.2 -2.875,-3.9
  region: 3.9,2.875 3.2,2.875 3.2,2.625 3.9,2.625
  region: 3.9,2.375 3.2,2.375 3.2,2.125 3.9,2.125
  region: 3.9,1.875 3.2,1.875 3.2,1.625 3.9,1.625
  region: 3.9,1.375 3.2,1.375 3.2,1.125 3.9,1.125
  region: 3.9,0.875 3.2,0.875 3.2,0.625 3.9,0.625
  region: 3.9,0.375 3.2,0.375 3.2,0.125 3.9,0.125
  region: 3.9,-0.125 3.2,-0.125 3.2,-0.375 3.9,-0.375
  region: 3.9,-0.625 3.2,-0.625 3.2,-0.875 3.9,-0.875
  region: 3.9,-1.125 3.2,-1.125 3.2,-1.375 3.9,-1.375
  region: 3.9,-1.625 3.2,-1.625 3.2,-1.875 3.9,-1.875
  region: 3.9,-2.125 3.2,-2.125 3.2,-2.375 3.9,-2.375
  region: 3.9,-2.625 3.2,-2.625 3.2,-2.875 3.9,-2.875
  region: -2.875,3.9 -2.875,3.2 -2.625,3.2 -2.625,3.9
  region: -2.375,3.9 -2.375,3.2 -2.125,3.2 -2.125,3.9
  region: -1.875,3.9 -1.875,3.2 -1.625,3.2 -1.625,3.9
  region: -1.375,3.9 -1.375,3.2 -1.125,3.2 -1.125,3.9
  region: -0.875,3.9 -0.875,3.2 -0.625,3.2 -0.625,3.9
  region: -0.375,3.9 -0.375,3.2 -0.125,3.2 -0.125,3.9
  region: 0.125,3.9 0.125,3.2 0.375,3.2 0.375,3.9
  region: 0.625,3.9 0.625,3.2 0.875,3.2 0.875,3.9
  region: 1.125,3.9 1.125,3.2 1.375,3.2 1.375,3.9
  region: 1.625,3.9 1.625,3.2 1.875,3.2 1.875,3.9
  region: 2.125,3.9 2.125,3.2 2.375,3.2 2.375,3.9
  region: 2.625,3.9 2.625,3.2 2.875,3.2 2.875,3.9
  rectangle: 0.1,0.1 1.2,1.2
  rectangle: 0.1,1.4 1.2,2.5
  rectangle: 1.4,0.1 2.5,1.2
  rectangle: 1.4,1.4 2.5,2.5
  region: -1.4,2.5 -2.5,2.5 -2.5,1.4 -1.4,1.4
  region: -1.4,1.2 -2.5,1.2 -2.5,0.1 -1.4,0.1
  region: -0.1,2.5 -1.2,2.5 -1.2,1.4 -0.1,1.4
  region: -0.1,1.2 -1.2,1.2 -1.2,0.1 -0.1,0.1
  region: -2.5,-1.4 -2.5,-2.5 -1.4,-2.5 -1.4,-1.4
  region: -1.2,-1.4 -1.2,-2.5 -0.1,-2.5 -0.1,-1.4
  region: -2.5,-0.1 -2.5,-1.2 -1.4,-1.2 -1.4,-0.1
  region: -1.2,-0.1 -1.2,-1.2 -0.1,-1.2 -0.1,-0.1
  region: 1.4,-1.4 1.4,-2.5 2.5,-2.5 2.5,-1.4
  region: 0.1,-1.4 0.1,-2.5 1.2,-2.5 1.2,-1.4
  region: 1.4,-0.1 1.4,-1.2 2.5,-1.2 2.5,-0.1
  region: 0.1,-0.1 0.1,-1.2 1.2,-1.2 1.2,-0.1
Mechanical 13:
  circle w0.1: c-2.65,2.65 r0.5
  lines w0.1: -3.55,-3.55 3.55,-3.55 3.55,3.55 -3.55,3.55 -3.55,-3.55
Mechanical 15:
  lines w0.05: -3.8,-3.8 3.8,-3.8 3.8,3.8 -3.8,3.8 -3.8,-3.8
  lines w0.1: -0.5,0 0.5,0 ; 0,-0.5 0,0.5
3D body: height 0.8, standoff 0, extent -3.55,-3.55 3.55,3.55

## SQA48D [mm] "QFN, 48-Leads, Body 7x7mm, Pitch 0.5mm, NSC Recommended"
height 0.8
pads (49):
  rect 0.75x0.25 smd paste-0.125 mask+0.051: 1(-3.425,2.75) 2(-3.425,2.25) 3(-3.425,1.75) 4(-3.425,1.25) 5(-3.425,0.75) 6(-3.425,0.25) 7(-3.425,-0.25) 8(-3.425,-0.75) 9(-3.425,-1.25) 10(-3.425,-1.75) 11(-3.425,-2.25) 12(-3.425,-2.75) 25(3.425,-2.75) 26(3.425,-2.25) 27(3.425,-1.75) 28(3.425,-1.25) 29(3.425,-0.75) 30(3.425,-0.25) 31(3.425,0.25) 32(3.425,0.75) 33(3.425,1.25) 34(3.425,1.75) 35(3.425,2.25) 36(3.425,2.75)
  rect 0.25x0.75 smd paste-0.125 mask+0.051: 13(-2.75,-3.425) 14(-2.25,-3.425) 15(-1.75,-3.425) 16(-1.25,-3.425) 17(-0.75,-3.425) 18(-0.25,-3.425) 19(0.25,-3.425) 20(0.75,-3.425) 21(1.25,-3.425) 22(1.75,-3.425) 23(2.25,-3.425) 24(2.75,-3.425) 37(2.75,3.425) 38(2.25,3.425) 39(1.75,3.425) 40(1.25,3.425) 41(0.75,3.425) 42(0.25,3.425) 43(-0.25,3.425) 44(-0.75,3.425) 45(-1.25,3.425) 46(-1.75,3.425) 47(-2.25,3.425) 48(-2.75,3.425)
  rect 4.1x4.1 smd paste-2.05 mask+0.051: 49(0,0)
via 0,0.5 diameter 0.5 hole 0.2
via 0,-0.5 diameter 0.5 hole 0.2
via 0.5,0 diameter 0.5 hole 0.2
via -0.5,0 diameter 0.5 hole 0.2
via 1.5,0 diameter 0.5 hole 0.2
via 0,1.5 diameter 0.5 hole 0.2
via 0,-1.5 diameter 0.5 hole 0.2
via -1.5,0 diameter 0.5 hole 0.2
Top Overlay:
  circle w0.25: c-4.5,3.425 r0.125
  lines w0.2: -3.95,-3.275 -3.95,-3.95 -3.275,-3.95 ; -3.95,3.275 -3.95,3.95 -3.275,3.95 ; 3.275,-3.95 3.95,-3.95 3.95,-3.275 ; 3.275,3.95 3.95,3.95 3.95,3.275
Top Paste:
  rectangle: 0.1,-1.9 1.9,-0.1
  region: -0.1,-0.1 -1.9,-0.1 -1.9,-1.9 -0.1,-1.9
  region: -0.1,1.9 -1.9,1.9 -1.9,0.1 -0.1,0.1
  rectangle: 0.1,0.1 1.9,1.9
  rectangle: -4,2.625 -3.15,2.875
  rectangle: -4,2.125 -3.15,2.375
  rectangle: -4,1.625 -3.15,1.875
  rectangle: -4,1.125 -3.15,1.375
  rectangle: -4,0.625 -3.15,0.875
  rectangle: -4,0.125 -3.15,0.375
  rectangle: -4,-0.375 -3.15,-0.125
  rectangle: -4,-0.875 -3.15,-0.625
  rectangle: -4,-1.375 -3.15,-1.125
  rectangle: -4,-1.875 -3.15,-1.625
  rectangle: -4,-2.375 -3.15,-2.125
  rectangle: -4,-2.875 -3.15,-2.625
  region: 4,-2.625 3.15,-2.625 3.15,-2.875 4,-2.875
  region: 4,-2.125 3.15,-2.125 3.15,-2.375 4,-2.375
  region: 4,-1.625 3.15,-1.625 3.15,-1.875 4,-1.875
  region: 4,-1.125 3.15,-1.125 3.15,-1.375 4,-1.375
  region: 4,-0.625 3.15,-0.625 3.15,-0.875 4,-0.875
  region: 4,-0.125 3.15,-0.125 3.15,-0.375 4,-0.375
  region: 4,0.375 3.15,0.375 3.15,0.125 4,0.125
  region: 4,0.875 3.15,0.875 3.15,0.625 4,0.625
  region: 4,1.375 3.15,1.375 3.15,1.125 4,1.125
  region: 4,1.875 3.15,1.875 3.15,1.625 4,1.625
  region: 4,2.375 3.15,2.375 3.15,2.125 4,2.125
  region: 4,2.875 3.15,2.875 3.15,2.625 4,2.625
  region: 2.625,4 2.625,3.15 2.875,3.15 2.875,4
  region: 2.125,4 2.125,3.15 2.375,3.15 2.375,4
  region: 1.625,4 1.625,3.15 1.875,3.15 1.875,4
  region: 1.125,4 1.125,3.15 1.375,3.15 1.375,4
  region: 0.625,4 0.625,3.15 0.875,3.15 0.875,4
  region: 0.125,4 0.125,3.15 0.375,3.15 0.375,4
  region: -0.375,4 -0.375,3.15 -0.125,3.15 -0.125,4
  region: -0.875,4 -0.875,3.15 -0.625,3.15 -0.625,4
  region: -1.375,4 -1.375,3.15 -1.125,3.15 -1.125,4
  region: -1.875,4 -1.875,3.15 -1.625,3.15 -1.625,4
  region: -2.375,4 -2.375,3.15 -2.125,3.15 -2.125,4
  region: -2.875,4 -2.875,3.15 -2.625,3.15 -2.625,4
  region: 2.875,-4 2.875,-3.15 2.625,-3.15 2.625,-4
  region: 2.375,-4 2.375,-3.15 2.125,-3.15 2.125,-4
  region: 1.875,-4 1.875,-3.15 1.625,-3.15 1.625,-4
  region: 1.375,-4 1.375,-3.15 1.125,-3.15 1.125,-4
  region: 0.875,-4 0.875,-3.15 0.625,-3.15 0.625,-4
  region: 0.375,-4 0.375,-3.15 0.125,-3.15 0.125,-4
  region: -0.125,-4 -0.125,-3.15 -0.375,-3.15 -0.375,-4
  region: -0.625,-4 -0.625,-3.15 -0.875,-3.15 -0.875,-4
  region: -1.125,-4 -1.125,-3.15 -1.375,-3.15 -1.375,-4
  region: -1.625,-4 -1.625,-3.15 -1.875,-3.15 -1.875,-4
  region: -2.125,-4 -2.125,-3.15 -2.375,-3.15 -2.375,-4
  region: -2.625,-4 -2.625,-3.15 -2.875,-3.15 -2.875,-4
Mechanical 13:
  circle w0.1: c-2.65,2.65 r0.5
  lines w0.1: -3.55,-3.55 -3.55,3.55 3.55,3.55 3.55,-3.55 -3.55,-3.55
Mechanical 15:
  lines w0.05: -3.9,-3.9 -3.9,3.9 3.9,3.9 3.9,-3.9 -3.9,-3.9
  lines w0.1: -0.5,0 0.5,0 ; 0,-0.5 0,0.5
3D body: height 0.8, standoff 0, extent -3.55,-3.55 3.55,3.55

## SQA54A [mm] "PQFN, 54-Leads, (18x9 pads), Body 10x10mm, Pitch 0.5mm, NSC Recommended"
height 0.8
pads (55):
  rect 0.6x0.25 smd paste-0.125 mask+0.051: 1(-2.65,4.25) 2(-2.65,3.75) 3(-2.65,3.25) 4(-2.65,2.75) 5(-2.65,2.25) 6(-2.65,1.75) 7(-2.65,1.25) 8(-2.65,0.75) 9(-2.65,0.25) 10(-2.65,-0.25) 11(-2.65,-0.75) 12(-2.65,-1.25) 13(-2.65,-1.75) 14(-2.65,-2.25) 15(-2.65,-2.75) 16(-2.65,-3.25) 17(-2.65,-3.75) 18(-2.65,-4.25) 28(2.65,-4.25) 29(2.65,-3.75) 30(2.65,-3.25) 31(2.65,-2.75) 32(2.65,-2.25) 33(2.65,-1.75) 34(2.65,-1.25) 35(2.65,-0.75) 36(2.65,-0.25) 37(2.65,0.25) 38(2.65,0.75) 39(2.65,1.25) 40(2.65,1.75) 41(2.65,2.25) 42(2.65,2.75) 43(2.65,3.25) 44(2.65,3.75) 45(2.65,4.25)
  rect 0.25x0.6 smd paste-0.125 mask+0.051: 19(-2,-4.9) 20(-1.5,-4.9) 21(-1,-4.9) 22(-0.5,-4.9) 23(0,-4.9) 24(0.5,-4.9) 25(1,-4.9) 26(1.5,-4.9) 27(2,-4.9) 46(2,4.9) 47(1.5,4.9) 48(1,4.9) 49(0.5,4.9) 50(0,4.9) 51(-0.5,4.9) 52(-1,4.9) 53(-1.5,4.9) 54(-2,4.9)
  rect 3.51x7.5 smd paste-1.755 mask+0.051: 55(0,0)
via 1.5,0.73 diameter 0.5 hole 0.2
via 0,0.73 diameter 0.5 hole 0.2
via 0,-0.73 diameter 0.5 hole 0.2
via 1.5,-0.73 diameter 0.5 hole 0.2
via -1.5,0.73 diameter 0.5 hole 0.2
via -1.5,-0.73 diameter 0.5 hole 0.2
via -1.5,2.19 diameter 0.5 hole 0.2
via 0,2.19 diameter 0.5 hole 0.2
via 1.5,2.19 diameter 0.5 hole 0.2
via -1.5,3.5 diameter 0.5 hole 0.2
via 0,3.5 diameter 0.5 hole 0.2
via 1.5,3.5 diameter 0.5 hole 0.2
via 1.5,-2.19 diameter 0.5 hole 0.2
via 0,-2.19 diameter 0.5 hole 0.2
via -1.5,-2.19 diameter 0.5 hole 0.2
via 1.5,-3.5 diameter 0.5 hole 0.2
via 0,-3.5 diameter 0.5 hole 0.2
via -1.5,-3.5 diameter 0.5 hole 0.2
Top Overlay:
  circle w0.25: c-3.6,4.925 r0.125
  lines w0.2: -2.95,-4.775 -2.95,-5.2 -2.525,-5.2 ; -2.95,4.775 -2.95,5.2 -2.525,5.2 ; 2.525,-5.2 2.95,-5.2 2.95,-4.775 ; 2.525,5.2 2.95,5.2 2.95,4.775
Top Paste:
  rectangle: 1.875,-5.4 2.125,-4.7
  rectangle: 1.375,-5.4 1.625,-4.7
  rectangle: 0.875,-5.4 1.125,-4.7
  rectangle: 0.375,-5.4 0.625,-4.7
  rectangle: -0.125,-5.4 0.125,-4.7
  rectangle: -0.625,-5.4 -0.375,-4.7
  rectangle: -1.125,-5.4 -0.875,-4.7
  rectangle: -1.625,-5.4 -1.375,-4.7
  rectangle: -2.125,-5.4 -1.875,-4.7
  region: -3.15,-4.125 -3.15,-4.375 -2.45,-4.375 -2.45,-4.125
  region: -3.15,-3.625 -3.15,-3.875 -2.45,-3.875 -2.45,-3.625
  region: -3.15,-3.125 -3.15,-3.375 -2.45,-3.375 -2.45,-3.125
  region: -3.15,-2.625 -3.15,-2.875 -2.45,-2.875 -2.45,-2.625
  region: -3.15,-2.125 -3.15,-2.375 -2.45,-2.375 -2.45,-2.125
  region: -3.15,-1.625 -3.15,-1.875 -2.45,-1.875 -2.45,-1.625
  region: -3.15,-1.125 -3.15,-1.375 -2.45,-1.375 -2.45,-1.125
  region: -3.15,-0.625 -3.15,-0.875 -2.45,-0.875 -2.45,-0.625
  region: -3.15,-0.125 -3.15,-0.375 -2.45,-0.375 -2.45,-0.125
  region: -3.15,0.375 -3.15,0.125 -2.45,0.125 -2.45,0.375
  region: -3.15,0.875 -3.15,0.625 -2.45,0.625 -2.45,0.875
  region: -3.15,1.375 -3.15,1.125 -2.45,1.125 -2.45,1.375
  region: -3.15,1.875 -3.15,1.625 -2.45,1.625 -2.45,1.875
  region: -3.15,2.375 -3.15,2.125 -2.45,2.125 -2.45,2.375
  region: -3.15,2.875 -3.15,2.625 -2.45,2.625 -2.45,2.875
  region: -3.15,3.375 -3.15,3.125 -2.45,3.125 -2.45,3.375
  region: -3.15,3.875 -3.15,3.625 -2.45,3.625 -2.45,3.875
  region: -3.15,4.375 -3.15,4.125 -2.45,4.125 -2.45,4.375
  region: 2.125,5.4 1.875,5.4 1.875,4.7 2.125,4.7
  region: 1.625,5.4 1.375,5.4 1.375,4.7 1.625,4.7
  region: 1.125,5.4 0.875,5.4 0.875,4.7 1.125,4.7
  region: 0.625,5.4 0.375,5.4 0.375,4.7 0.625,4.7
  region: 0.125,5.4 -0.125,5.4 -0.125,4.7 0.125,4.7
  region: -0.375,5.4 -0.625,5.4 -0.625,4.7 -0.375,4.7
  region: -0.875,5.4 -1.125,5.4 -1.125,4.7 -0.875,4.7
  region: -1.375,5.4 -1.625,5.4 -1.625,4.7 -1.375,4.7
  region: -1.875,5.4 -2.125,5.4 -2.125,4.7 -1.875,4.7
  region: 3.15,-4.375 3.15,-4.125 2.45,-4.125 2.45,-4.375
  region: 3.15,-3.875 3.15,-3.625 2.45,-3.625 2.45,-3.875
  region: 3.15,-3.375 3.15,-3.125 2.45,-3.125 2.45,-3.375
  region: 3.15,-2.875 3.15,-2.625 2.45,-2.625 2.45,-2.875
  region: 3.15,-2.375 3.15,-2.125 2.45,-2.125 2.45,-2.375
  region: 3.15,-1.875 3.15,-1.625 2.45,-1.625 2.45,-1.875
  region: 3.15,-1.375 3.15,-1.125 2.45,-1.125 2.45,-1.375
  region: 3.15,-0.875 3.15,-0.625 2.45,-0.625 2.45,-0.875
  region: 3.15,-0.375 3.15,-0.125 2.45,-0.125 2.45,-0.375
  region: 3.15,0.125 3.15,0.375 2.45,0.375 2.45,0.125
  region: 3.15,0.625 3.15,0.875 2.45,0.875 2.45,0.625
  region: 3.15,1.125 3.15,1.375 2.45,1.375 2.45,1.125
  region: 3.15,1.625 3.15,1.875 2.45,1.875 2.45,1.625
  region: 3.15,2.125 3.15,2.375 2.45,2.375 2.45,2.125
  region: 3.15,2.625 3.15,2.875 2.45,2.875 2.45,2.625
  region: 3.15,3.125 3.15,3.375 2.45,3.375 2.45,3.125
  region: 3.15,3.625 3.15,3.875 2.45,3.875 2.45,3.625
  region: 3.15,4.125 3.15,4.375 2.45,4.375 2.45,4.125
  rectangle: 0.1,-0.63 1.4,0.63
  region: -0.1,0.63 -1.4,0.63 -1.4,-0.63 -0.1,-0.63
  region: -0.1,2.09 -1.4,2.09 -1.4,0.83 -0.1,0.83
  rectangle: 0.1,0.83 1.4,2.09
  region: -0.1,3.55 -1.4,3.55 -1.4,2.29 -0.1,2.29
  rectangle: 0.1,2.29 1.4,3.55
  rectangle: 0.1,-2.09 1.4,-0.83
  region: -0.1,-0.83 -1.4,-0.83 -1.4,-2.09 -0.1,-2.09
  rectangle: 0.1,-3.55 1.4,-2.29
  region: -0.1,-2.29 -1.4,-2.29 -1.4,-3.55 -0.1,-3.55
Mechanical 13:
  circle w0.1: c-1.85,4.1 r0.5
  lines w0.1: -2.8,-5.05 -2.8,5.05 2.8,5.05 2.8,-5.05 -2.8,-5.05
Mechanical 15:
  lines w0.05: -2.9,-5.15 -2.9,5.15 2.9,5.15 2.9,-5.15 -2.9,-5.15
  lines w0.1: -0.5,0 0.5,0 ; 0,-0.5 0,0.5
3D body: height 0.8, standoff 0, extent -2.799,-5.049 2.799,5.049

## SQA60A [mm] "QFN, 60-Leads, Body 9x9mm, Pitch 0.5mm, NSC Recommended"
height 0.8
pads (61):
  rect 0.8x0.25 smd paste-0.125 mask+0.051: 1(-4.3,3.5) 2(-4.3,3) 3(-4.3,2.5) 4(-4.3,2) 5(-4.3,1.5) 6(-4.3,1) 7(-4.3,0.5) 8(-4.3,0) 9(-4.3,-0.5) 10(-4.3,-1) 11(-4.3,-1.5) 12(-4.3,-2) 13(-4.3,-2.5) 14(-4.3,-3) 15(-4.3,-3.5) 31(4.3,-3.5) 32(4.3,-3) 33(4.3,-2.5) 34(4.3,-2) 35(4.3,-1.5) 36(4.3,-1) 37(4.3,-0.5) 38(4.3,0) 39(4.3,0.5) 40(4.3,1) 41(4.3,1.5) 42(4.3,2) 43(4.3,2.5) 44(4.3,3) 45(4.3,3.5)
  rect 0.25x0.8 smd paste-0.125 mask+0.051: 16(-3.5,-4.3) 17(-3,-4.3) 18(-2.5,-4.3) 19(-2,-4.3) 20(-1.5,-4.3) 21(-1,-4.3) 22(-0.5,-4.3) 23(0,-4.3) 24(0.5,-4.3) 25(1,-4.3) 26(1.5,-4.3) 27(2,-4.3) 28(2.5,-4.3) 29(3,-4.3) 30(3.5,-4.3) 46(3.5,4.3) 47(3,4.3) 48(2.5,4.3) 49(2,4.3) 50(1.5,4.3) 51(1,4.3) 52(0.5,4.3) 53(0,4.3) 54(-0.5,4.3) 55(-1,4.3) 56(-1.5,4.3) 57(-2,4.3) 58(-2.5,4.3) 59(-3,4.3) 60(-3.5,4.3)
  rect 7.2x7.2 smd paste-3.6 mask+0.051: 61(0,0)
via 0.73,0.73 diameter 0.5 hole 0.2
via -0.73,0.73 diameter 0.5 hole 0.2
via -0.73,-0.73 diameter 0.5 hole 0.2
via 0.73,-0.73 diameter 0.5 hole 0.2
via -2.19,0.73 diameter 0.5 hole 0.2
via 2.19,0.73 diameter 0.5 hole 0.2
via 2.19,-0.73 diameter 0.5 hole 0.2
via -2.19,-0.73 diameter 0.5 hole 0.2
via -2.19,-2.19 diameter 0.5 hole 0.2
via -0.73,-2.19 diameter 0.5 hole 0.2
via 0.73,-2.19 diameter 0.5 hole 0.2
via 2.19,-2.19 diameter 0.5 hole 0.2
via -2.19,2.19 diameter 0.5 hole 0.2
via -0.73,2.19 diameter 0.5 hole 0.2
via 0.73,2.19 diameter 0.5 hole 0.2
via 2.19,2.19 diameter 0.5 hole 0.2
via -2.19,3.34 diameter 0.5 hole 0.2
via -0.73,3.34 diameter 0.5 hole 0.2
via 0.73,3.34 diameter 0.5 hole 0.2
via 2.19,3.34 diameter 0.5 hole 0.2
via 0.73,-3.34 diameter 0.5 hole 0.2
via 2.19,-3.34 diameter 0.5 hole 0.2
via -0.73,-3.34 diameter 0.5 hole 0.2
via -2.19,-3.34 diameter 0.5 hole 0.2
via 3.34,-0.73 diameter 0.5 hole 0.2
via 3.34,-2.19 diameter 0.5 hole 0.2
via -3.34,-2.19 diameter 0.5 hole 0.2
via -3.34,-0.73 diameter 0.5 hole 0.2
via -3.34,2.19 diameter 0.5 hole 0.2
via -3.34,0.73 diameter 0.5 hole 0.2
via 3.34,2.19 diameter 0.5 hole 0.2
via 3.34,0.73 diameter 0.5 hole 0.2
Top Overlay:
  circle w0.25: c-5.4,4.175 r0.125
  lines w0.2: -4.85,-4.025 -4.85,-4.85 -4.025,-4.85 ; -4.85,4.025 -4.85,4.85 -4.025,4.85 ; 4.025,-4.85 4.85,-4.85 4.85,-4.025 ; 4.025,4.85 4.85,4.85 4.85,4.025
Top Paste:
  rectangle: -0.58,-0.58 0.58,0.58
  rectangle: -4.9,3.375 -4,3.625
  rectangle: -4.9,2.875 -4,3.125
  rectangle: -4.9,2.375 -4,2.625
  rectangle: -4.9,1.875 -4,2.125
  rectangle: -4.9,1.375 -4,1.625
  rectangle: -4.9,0.875 -4,1.125
  rectangle: -4.9,0.375 -4,0.625
  rectangle: -4.9,-0.125 -4,0.125
  rectangle: -4.9,-0.625 -4,-0.375
  rectangle: -4.9,-1.125 -4,-0.875
  rectangle: -4.9,-1.625 -4,-1.375
  rectangle: -4.9,-2.125 -4,-1.875
  rectangle: -4.9,-2.625 -4,-2.375
  rectangle: -4.9,-3.125 -4,-2.875
  rectangle: -4.9,-3.625 -4,-3.375
  region: 3.625,-4.9 3.625,-4 3.375,-4 3.375,-4.9
  region: 3.125,-4.9 3.125,-4 2.875,-4 2.875,-4.9
  region: 2.625,-4.9 2.625,-4 2.375,-4 2.375,-4.9
  region: 2.125,-4.9 2.125,-4 1.875,-4 1.875,-4.9
  region: 1.625,-4.9 1.625,-4 1.375,-4 1.375,-4.9
  region: 1.125,-4.9 1.125,-4 0.875,-4 0.875,-4.9
  region: 0.625,-4.9 0.625,-4 0.375,-4 0.375,-4.9
  region: 0.125,-4.9 0.125,-4 -0.125,-4 -0.125,-4.9
  region: -0.375,-4.9 -0.375,-4 -0.625,-4 -0.625,-4.9
  region: -0.875,-4.9 -0.875,-4 -1.125,-4 -1.125,-4.9
  region: -1.375,-4.9 -1.375,-4 -1.625,-4 -1.625,-4.9
  region: -1.875,-4.9 -1.875,-4 -2.125,-4 -2.125,-4.9
  region: -2.375,-4.9 -2.375,-4 -2.625,-4 -2.625,-4.9
  region: -2.875,-4.9 -2.875,-4 -3.125,-4 -3.125,-4.9
  region: -3.375,-4.9 -3.375,-4 -3.625,-4 -3.625,-4.9
  region: 4.9,3.625 4,3.625 4,3.375 4.9,3.375
  region: 4.9,3.125 4,3.125 4,2.875 4.9,2.875
  region: 4.9,2.625 4,2.625 4,2.375 4.9,2.375
  region: 4.9,2.125 4,2.125 4,1.875 4.9,1.875
  region: 4.9,1.625 4,1.625 4,1.375 4.9,1.375
  region: 4.9,1.125 4,1.125 4,0.875 4.9,0.875
  region: 4.9,0.625 4,0.625 4,0.375 4.9,0.375
  region: 4.9,0.125 4,0.125 4,-0.125 4.9,-0.125
  region: 4.9,-0.375 4,-0.375 4,-0.625 4.9,-0.625
  region: 4.9,-0.875 4,-0.875 4,-1.125 4.9,-1.125
  region: 4.9,-1.375 4,-1.375 4,-1.625 4.9,-1.625
  region: 4.9,-1.875 4,-1.875 4,-2.125 4.9,-2.125
  region: 4.9,-2.375 4,-2.375 4,-2.625 4.9,-2.625
  region: 4.9,-2.875 4,-2.875 4,-3.125 4.9,-3.125
  region: 4.9,-3.375 4,-3.375 4,-3.625 4.9,-3.625
  region: -3.625,4.9 -3.625,4 -3.375,4 -3.375,4.9
  region: -3.125,4.9 -3.125,4 -2.875,4 -2.875,4.9
  region: -2.625,4.9 -2.625,4 -2.375,4 -2.375,4.9
  region: -2.125,4.9 -2.125,4 -1.875,4 -1.875,4.9
  region: -1.625,4.9 -1.625,4 -1.375,4 -1.375,4.9
  region: -1.125,4.9 -1.125,4 -0.875,4 -0.875,4.9
  region: -0.625,4.9 -0.625,4 -0.375,4 -0.375,4.9
  region: -0.125,4.9 -0.125,4 0.125,4 0.125,4.9
  region: 0.375,4.9 0.375,4 0.625,4 0.625,4.9
  region: 0.875,4.9 0.875,4 1.125,4 1.125,4.9
  region: 1.375,4.9 1.375,4 1.625,4 1.625,4.9
  region: 1.875,4.9 1.875,4 2.125,4 2.125,4.9
  region: 2.375,4.9 2.375,4 2.625,4 2.625,4.9
  region: 2.875,4.9 2.875,4 3.125,4 3.125,4.9
  region: 3.375,4.9 3.375,4 3.625,4 3.625,4.9
  rectangle: 0.88,-0.58 2.04,0.58
  rectangle: 2.34,-0.58 3.5,0.58
  rectangle: 0.88,0.88 2.04,2.04
  rectangle: 0.88,2.34 2.04,3.5
  rectangle: 2.34,2.34 3.5,3.5
  rectangle: 2.34,0.88 3.5,2.04
  rectangle: -0.58,0.88 0.58,2.04
  rectangle: -0.58,2.34 0.58,3.5
  rectangle: -2.04,2.34 -0.88,3.5
  rectangle: -3.5,2.34 -2.34,3.5
  rectangle: -3.5,0.88 -2.34,2.04
  rectangle: -2.04,0.88 -0.88,2.04
  rectangle: -2.04,-0.58 -0.88,0.58
  rectangle: -3.5,-0.58 -2.34,0.58
  rectangle: -3.5,-2.04 -2.34,-0.88
  rectangle: -2.04,-2.04 -0.88,-0.88
  rectangle: -0.58,-2.04 0.58,-0.88
  rectangle: 0.88,-2.04 2.04,-0.88
  rectangle: 2.34,-2.04 3.5,-0.88
  rectangle: 2.34,-3.5 3.5,-2.34
  rectangle: 0.88,-3.5 2.04,-2.34
  rectangle: -0.58,-3.5 0.58,-2.34
  rectangle: -2.04,-3.5 -0.88,-2.34
  rectangle: -3.5,-3.5 -2.34,-2.34
Mechanical 13:
  circle w0.1: c-3.65,3.65 r0.5
  lines w0.1: -4.55,-4.55 -4.55,4.55 4.55,4.55 4.55,-4.55 -4.55,-4.55
Mechanical 15:
  lines w0.05: -4.8,-4.8 -4.8,4.8 4.8,4.8 4.8,-4.8 -4.8,-4.8
  lines w0.1: -0.5,0 0.5,0 ; 0,-0.5 0,0.5
3D body: height 0.8, standoff 0, extent -4.55,-4.55 4.55,4.55